# Altium schematic symbol library Schlib_Wurth_Electronics.SchLib: 20 symbols
Pins are listed as number, name and electrical type; pins without a type are passive.

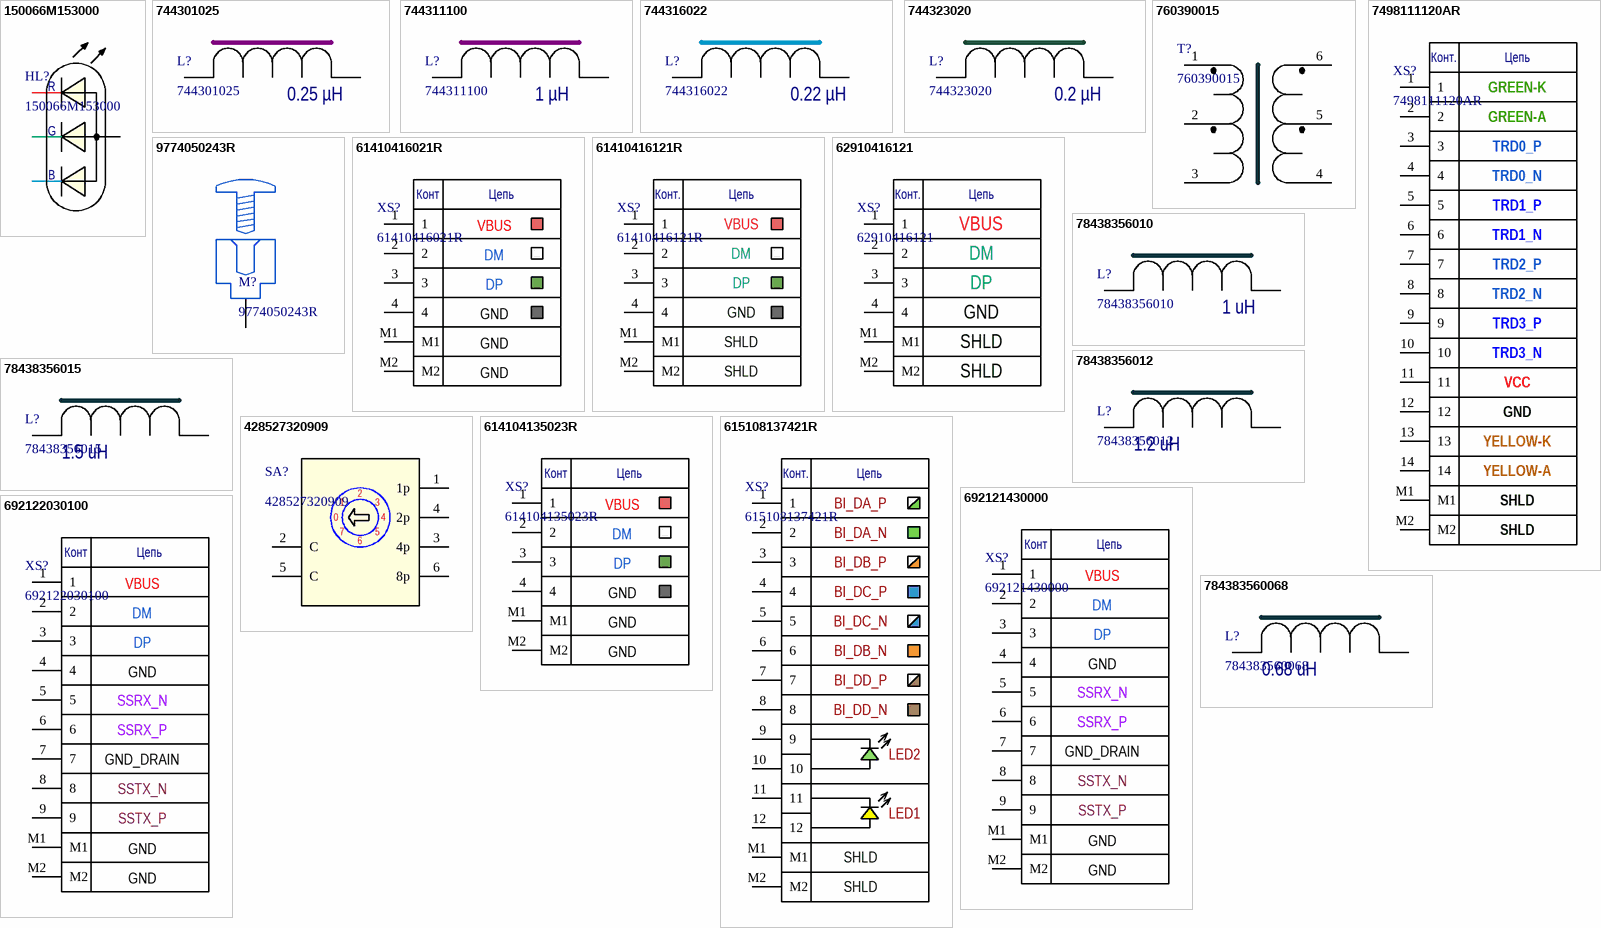
[diagram p0: symbols 150066M153000 to 784383560068]

## 150066M153000
designator HL?
LED RGB DIFFUSED SMD; Manufacturer: Wurth Electronics Inc.; Wavelength Peak: 632nm Red, 520nm Green, 468nm Blue; Wavelength Dominant: 624nm Red, 525nm Green, 470nm Blue; Part Number: 150066M153000; Package: 0606 (1616 Metric)
footprint LED0606 (RGB led 0606 (1616 Metric) package)
pins: 1, 2, 3, 4
text: R; G; B

## 744301025
designator L?  Inductance @ 100 kHz: 0.25 µH
Shielded SMD Power Inductors; Manufacturer: Wurth Electronics Inc.; RDC: 0.32 mOhm; SRF Min: 250 MHz; Irms  Max: 38 A; Isat  Typ: 65 A; Part Number: 744301025; Package: 10.5 x 11 mm
footprint 744301025
pins: 1, 2

## 744311100
designator L?  Inductance @ 100 kHz: 1 µH
Shielded SMD Power Inductors; Manufacturer: Wurth Electronics Inc.; RDC: 4.6 mOhm; SRF Min: 85 MHz; Irms  Max: 15 A; Isat  Typ: 19 A; Part Number: 744311100; Package: 7 x 7 mm
footprint 744311100
pins: 1, 2

## 744316022
designator L?  Inductance @ 100 kHz: 0.22 µH
Shielded SMD Power Inductors; Manufacturer: Wurth Electronics Inc.; RDC: 1.25 mOhm; SRF Min: 507 MHz; Irms  Max: 20 A; Isat  Typ: 25 A; Part Number: 744316022; Package: 5.5 x 5.6 mm
footprint 744316022
pins: 1, 2

## 744323020
designator L?  Inductance @ 100 kHz: 0.2 µH
Shielded SMD Power Inductors; Manufacturer: Wurth Electronics Inc.; RDC: 0.82 mOhm; SRF Min: 216 MHz; Irms  Max: 22 A; Isat  Typ: 50 A; Part Number: 744323020; Package: 10.6 x 10.6 mm
footprint 744323020
pins: 1, 2

## 760390015
designator T?
MID-PPTI Push-Pull Transformer for Texas Instruments SN6501; Manufacturer: Wurth Electronics Inc.; Turns Ratio (6-4):(1-3): 2:1; Part Number: 760390015; Package: 10.2 x 6.73 mm
footprint 760390015
pins: 1, 2, 3, 4, 5, 6

## 7498111120AR
designator XS?
1000BASE-T RJ-45 Jack; Manufacturer: Wurth Electronics Inc.; Part Number: 7498111120AR
footprint 7498111120AR
pins: 1, 2, 3, 4, 5, 6, 7, 8, 9, 10, 11, 12, 13, 14, M1, M2
text: Конт.; Цепь; GREEN-K; GREEN-A; TRD0_P; TRD0_N; TRD1_P; TRD1_N; TRD2_P; TRD2_N; TRD3_P; TRD3_N; VCC; GND; YELLOW-K; YELLOW-A; SHLD

## 9774050243R
designator M?
SMT Steel Spacer with internal Thread; Manufacturer: Wurth Electronics Inc.; Part Number: 9774050243R
footprint 9774050243R (SMT Steel Spacer with internal Thread)
pins: 1 1p

## 61410416021R
designator XS?
USB 2.0 Type A Horizontal THR; Manufacturer: Wurth Electronics Inc.; Part Number: 61410416021R
footprint 61410416021R (USB Type A Horizontal THR)
pins: 1, 2, 3, 4, M1, M2
text: Конт; Цепь; VBUS; DM; DP; GND

## 61410416121R
designator XS?
USB 2.0 Type B Horizontal THR; Manufacturer: Wurth Electronics Inc.; Part Number: 61410416121R
footprint 61410416121R (USB Type B Horizontal THR)
pins: 1, 2, 3, 4, M1, M2
text: Конт.; Цепь; VBUS; DM; DP; GND; SHLD

## 62910416121
designator XS?
USB 2.0 Horizontal SMT Type B with Pads and Pegs WR-COM; Manufacturer: Wurth Electronics Inc.; Part Number: 62910416121
footprint 62910416121 (USB 2.0 Horizontal SMT Type B)
pins: 1, 2, 3, 4, M1, M2
text: Конт.; Цепь; VBUS; DM; DP; GND; SHLD

## 78438356010
designator L?  Inductance @ 100 kHz: 1 uH
Shielded SMD Power Inductors; Manufacturer: Wurth Electronics Inc.; RDC: 12 mOhm; SRF Min: 55 MHz; Irms  Max: 7.2 A; Isat  Typ: 9 A; Part Number: 78438356010; Package: 4.1 x 4.1 mm
footprint 78438356
pins: 1, 2

## 78438356012
designator L?  Inductance @ 100 kHz: 1.2 uH
Shielded SMD Power Inductors; Manufacturer: Wurth Electronics Inc.; RDC: 18 mOhm; SRF Min: 52 MHz; Irms  Max: 5.8 A; Isat  Typ: 9 A; Part Number: 78438356012; Package: 4.1 x 4.1 mm
footprint 78438356
pins: 1, 2

## 78438356015
designator L?  Inductance @ 100 kHz: 1.5 uH
Shielded SMD Power Inductors; Manufacturer: Wurth Electronics Inc.; RDC: 19 mOhm; SRF Min: 48 MHz; Irms  Max: 5.8 A; Isat  Typ: 7.8 A; Part Number: 78438356015; Package: 4.1 x 4.1 mm
footprint 78438356
pins: 1, 2

## 428527320909
designator SA?
SW ROTARY DIP OCTAL 150MA 24V; Manufacturer: Wurth Electronics Inc.; Circuit: Octal Complement; Part Number: 428527320909; Package: Non standart
footprint 428527320908
pins: 1 1p, 2 C, 3 4p, 4 2p, 5 C, 6 8p
text: 0; 7

## 614104135023R
designator XS?
USB 2.0 Type A Vertical THR; Manufacturer: Wurth Electronics Inc.; Part Number: 614104135023R
footprint 614104135023R (USB Type A Vertical THR)
pins: 1, 2, 3, 4, M1, M2
text: Конт; Цепь; VBUS; DM; DP; GND

## 615108137421R
designator XS?
Modular Jack THR Horizontal Shielded w. LED and EMI Finger 8P8C; Manufacturer: Wurth Electronics Inc.; Part Number: 615108137421R
footprint 615108137421R (Modular Jack Horizonal Shielded  with LED and EMI Panel Finger 8P8C  THR Compatible Tab Up)
footprint 615108137421R_SLOTS (Modular Jack Horizonal Shielded  with LED and EMI Panel Finger 8P8C  THR Compatible Tab Up)
pins: 1, 2, 3, 4, 5, 6, 7, 8, 9, 10, 11, 12, M1, M2
text: Конт.; Цепь; BI_DA_P; BI_DA_N; BI_DB_P; BI_DC_P; BI_DC_N; BI_DB_N; BI_DD_P; BI_DD_N; LED2; LED1; SHLD

## 692121430000
designator XS?
USB 3.0 VERTICAL; Manufacturer: Wurth Electronics Inc.; Part Number: 692121430000
footprint 692121430000
pins: 1, 2, 3, 4, 5, 6, 7, 8, 9, M1, M2
text: Конт; Цепь; VBUS; DM; DP; GND; SSRX_N; SSRX_P; GND_DRAIN; SSTX_N; SSTX_P

## 692122030100
designator XS?
USB 3.0 Horizontal SMT; Manufacturer: Wurth Electronics Inc.; Part Number: 692122030100
footprint 692122030100
pins: 1, 2, 3, 4, 5, 6, 7, 8, 9, M1, M2
text: Конт; Цепь; VBUS; DM; DP; GND; SSRX_N; SSRX_P; GND_DRAIN; SSTX_N; SSTX_P

## 784383560068
designator L?  Inductance @ 100 kHz: 0.68 uH
Shielded SMD Power Inductors; Manufacturer: Wurth Electronics Inc.; RDC: 9 mOhm; SRF Min: 75 MHz; Irms  Max: 8.2 A; Isat  Typ: 9.4 A; Part Number: 784383560068; Package: 4.1 x 4.1 mm
footprint 78438356
pins: 1, 2